# Altium footprint library CAN ISO.PcbLib: 1 footprints
Each footprint in its own frame and in the unit in brackets; x right, y up, seen from the top. Pads: shape width x height; smd on the part's side, far side on the other; paste and mask are expansions set on the pad; w line width, h text height; cw(c..) or ccw(c..) is an arc to the next point about the centre after c.
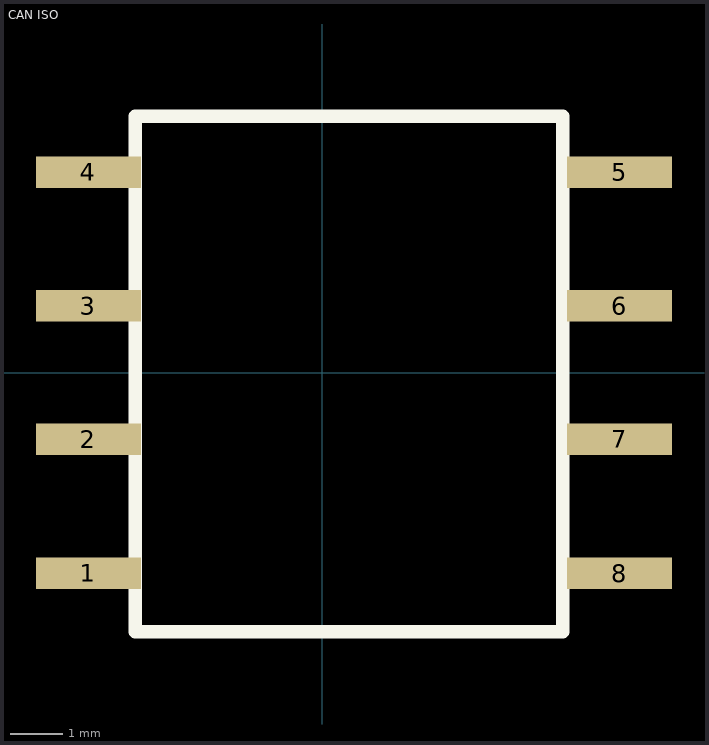
[diagram p0: the footprint, top view; thin cyan lines are the x and y axes]

## CAN ISO [mm] "Fixed 28-01-11"
pads (8):
  rect 2x0.6 smd: 1(-4.445,-3.81) 2(-4.445,-1.265) 3(-4.445,1.27) 4(-4.445,3.81) 5(5.655,3.81) 6(5.655,1.27) 7(5.655,-1.27) 8(5.655,-3.81)
Top Overlay:
  lines w0.254: -3.556,-4.928 -3.556,4.877 4.572,4.877 4.572,-4.928 -3.556,-4.928